# EAGLE library part P82B96 (library bob)
I2C Buffer DIL08
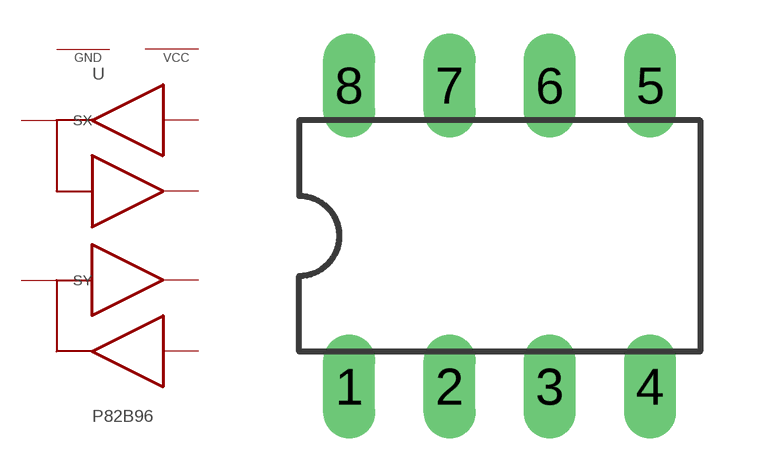
[diagram p0: symbol with the pads of P82B96; footprint P82B96]

Designator prefix -

## P82B96B  [P82B96]

## P82B96P  [P82B96]
1  SX
2  RX  in
3  TX  out
4  GND  pwr
5  TY  out
6  RY  in
7  SY
8  VCC  pwr

## Footprint P82B96 (pad centres in mm)
drill 0.813 long: 1 -3.81,-3.81; 2 -1.27,-3.81; 3 1.27,-3.81; 4 3.81,-3.81; 5 3.81,3.81; 6 1.27,3.81; 7 -1.27,3.81; 8 -3.81,3.81